# EAGLE library part DCDC-3A (library my_ic)
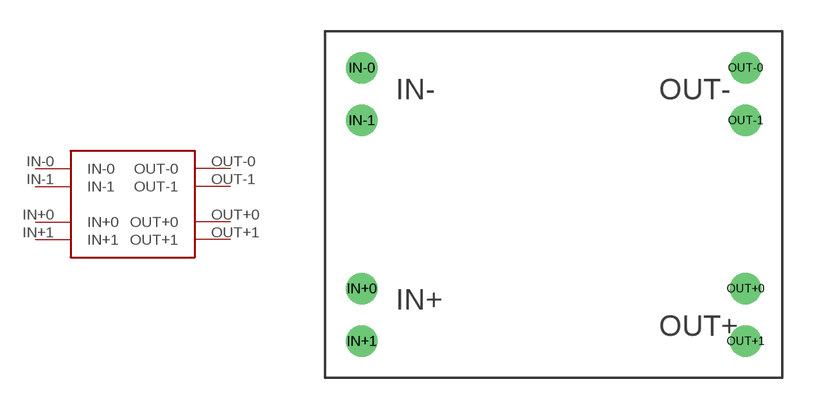
[diagram p9: symbol with the pads of DCDC-3A; footprint DCDC-3A]

Designator prefix -

## DCDC-3A  [DCDC-3A]
IN+0  IN+0
IN+1  IN+1
IN-0  IN-0
IN-1  IN-1
OUT+0  OUT+0
OUT+1  OUT+1
OUT-0  OUT-0
OUT-1  OUT-1

## Footprint DCDC-3A (pad centres in mm)
drill 1: IN+0 -9.271,-4.064; IN+1 -9.271,-6.604; IN-0 -9.271,6.604; IN-1 -9.271,4.064; OUT+0 9.271,-4.064; OUT+1 9.271,-6.604; OUT-0 9.271,6.604; OUT-1 9.271,4.064